# Altium footprint library IC.PcbLib: 26 footprints (part 1 of 2)
Each footprint in its own frame and in the unit in brackets; x right, y up, seen from the top. Pads: shape width x height; smd on the part's side, far side on the other; paste and mask are expansions set on the pad; w line width, h text height; cw(c..) or ccw(c..) is an arc to the next point about the centre after c.
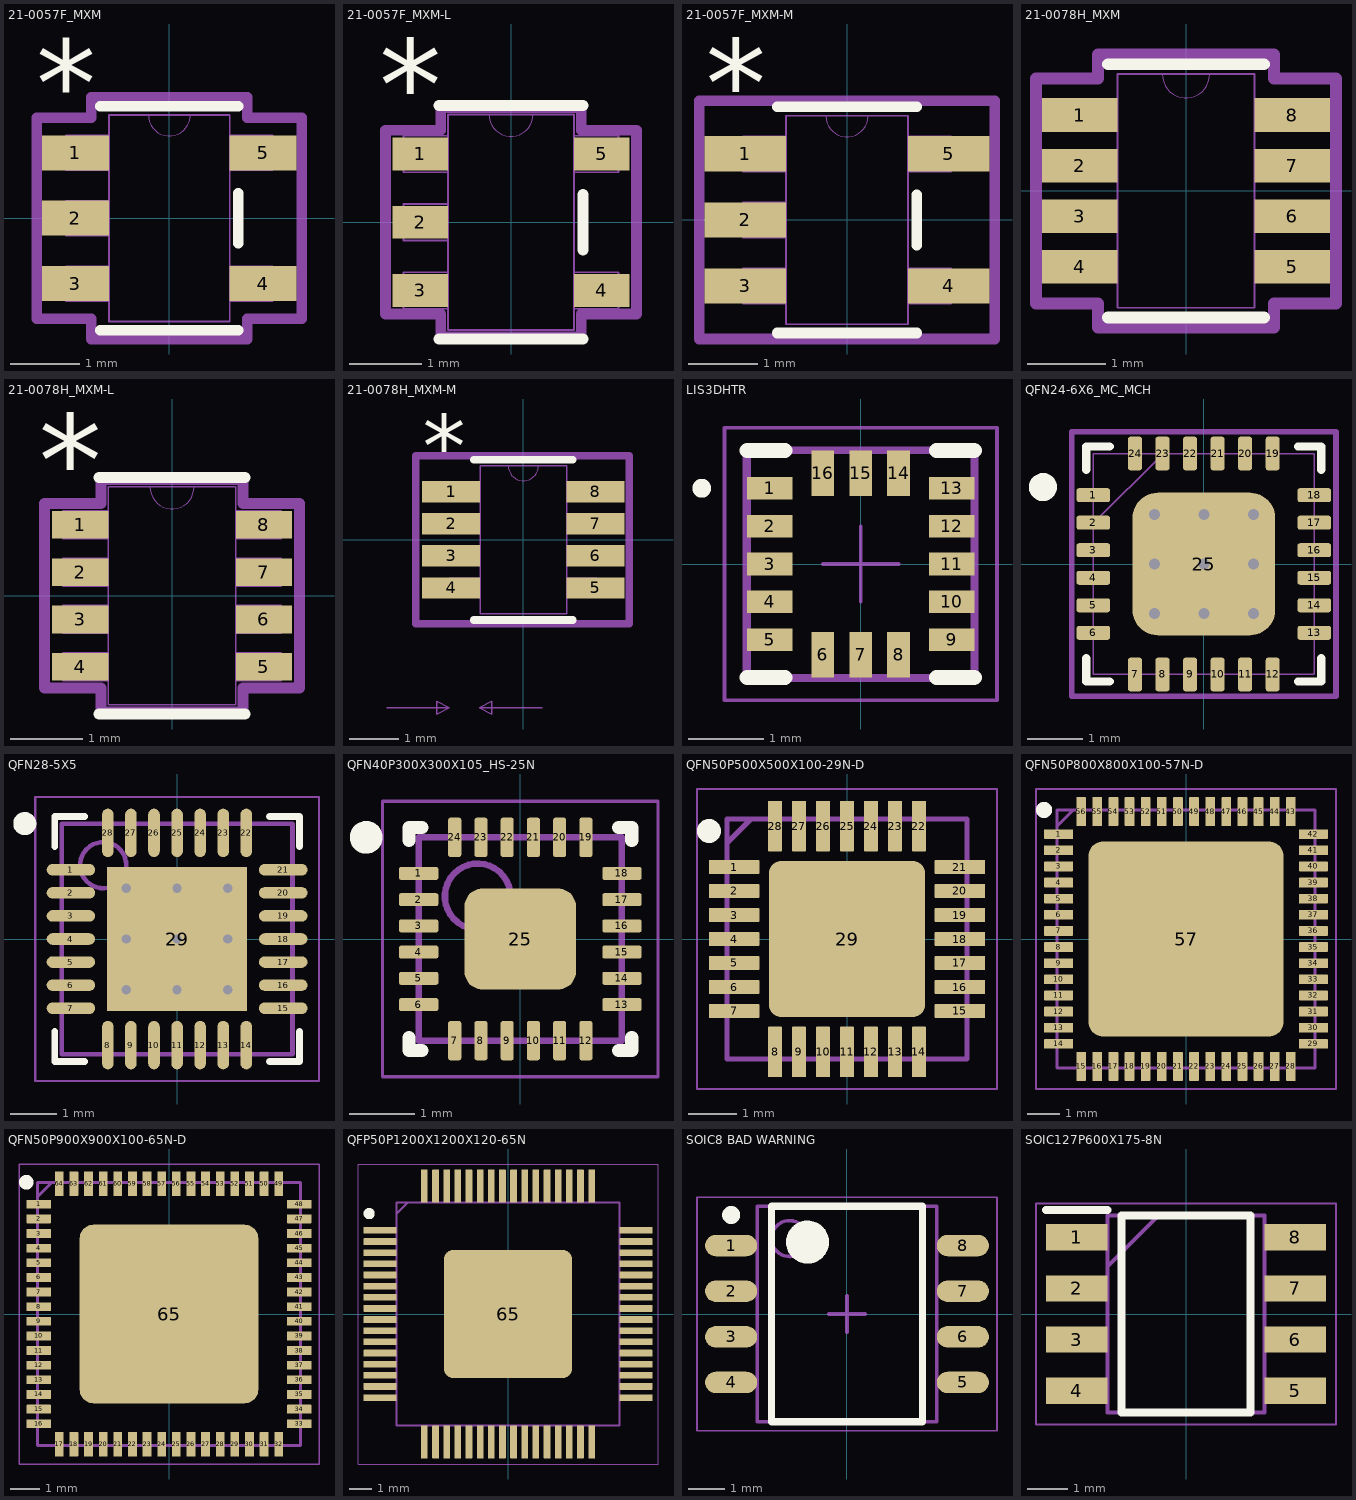
[diagram p0: the footprints below, top view; thin cyan lines are the x and y axes]

## 21-0057F_MXM [mil]
pads (5):
  rect 38.28x20 smd paste+0 mask+0: 1(-53.64,37.4) 2(-53.64,0) 3(-53.64,-37.4) 4(53.64,-37.4) 5(53.64,37.4)
Top Overlay:
  lines w6: -39.5,-64 39.5,-64 ; -39.5,64 39.5,64 ; 39.5,-14.3 39.5,14.3
  text "*" at -76.14,52.4 h50
Top Courtyard:
  lines w6: -75.79,-57.4 -44.5,-57.4 -44.5,-69 44.5,-69 44.5,-57.4 75.79,-57.4 75.79,57.4 44.5,57.4 44.5,69 -44.5,69 -44.5,57.4 -75.79,57.4 -75.79,-57.4
Mechanical 13:
  lines w0: -12,59 ccw(c0,59) 12,59
  lines w1: -59,-47.4 -59,-27.4 -34.5,-27.4 -34.5,-47.4 -59,-47.4 ; -59,-10 -59,10 -34.5,10 -34.5,-10 -59,-10 ; -59,27.4 -59,47.4 -34.5,47.4 -34.5,27.4 -59,27.4 ; -34.5,-59 34.5,-59 34.5,59 -34.5,59 -34.5,-59 ; 34.5,-47.4 34.5,-27.4 59,-27.4 59,-47.4 34.5,-47.4 ; 34.5,27.4 34.5,47.4 59,47.4 59,27.4 34.5,27.4
3D body: height 10, standoff 0, extent 0,0 10,10
3D body "21-0057F_MXM.step": height 57.09, standoff 0, extent -59.01,-59.01 59.02,59.02

## 21-0057F_MXM-L [mm]
pads (5):
  rect 0.772x0.458 smd paste+0 mask+0: 1(-1.262,0.95) 2(-1.262,0) 3(-1.262,-0.95) 4(1.262,-0.95) 5(1.262,0.95)
Top Overlay:
  lines w0.152: -1.003,-1.626 1.003,-1.626 ; -1.003,1.626 1.003,1.626 ; 1.003,-0.388 1.003,0.388
  text "*" at -1.834,1.281 h1.27
Top Courtyard:
  lines w0.152: -1.75,-1.281 -0.978,-1.281 -0.978,-1.6 0.978,-1.6 0.978,-1.281 1.75,-1.281 1.75,1.281 0.978,1.281 0.978,1.6 -0.978,1.6 -0.978,1.281 -1.75,1.281 -1.75,-1.281
Mechanical 13:
  lines w0: -0.305,1.499 ccw(c0,1.499) 0.305,1.499
  lines w0.025: -1.499,-1.204 -0.876,-1.204 -0.876,-0.696 -1.499,-0.696 -1.499,-1.204 ; -1.499,-0.254 -0.876,-0.254 -0.876,0.254 -1.499,0.254 -1.499,-0.254 ; -1.499,0.696 -0.876,0.696 -0.876,1.204 -1.499,1.204 -1.499,0.696 ; -0.876,-1.499 -0.876,1.499 0.876,1.499 0.876,-1.499 -0.876,-1.499 ; 0.876,-1.204 1.499,-1.204 1.499,-0.696 0.876,-0.696 0.876,-1.204 ; 0.876,0.696 1.499,0.696 1.499,1.204 0.876,1.204 0.876,0.696
3D body "21-0057F_MXM.step": height 1.45, standoff 0, extent -1.499,-1.499 1.499,1.499
3D body: height 0.25, standoff 0, extent 0,0 0.254,0.254

## 21-0057F_MXM-M [mil]
pads (5):
  rect 46.15x20 smd paste+0 mask+0: 1(-57.58,37.4) 2(-57.58,0) 3(-57.58,-37.4) 4(57.58,-37.4) 5(57.58,37.4)
Top Overlay:
  lines w6: -39.5,-64 39.5,-64 ; -39.5,64 39.5,64 ; 39.5,-14.3 39.5,14.3
  text "*" at -80.08,52.4 h50
Top Courtyard:
  lines w6: -83.66,-67.4 -83.66,67.4 -54.5,67.4 54.5,67.4 83.66,67.4 83.66,-67.4 54.5,-67.4 -54.5,-67.4 -83.66,-67.4
Mechanical 13:
  lines w0: -12,59 ccw(c0,59) 12,59
  lines w1: -59,-47.4 -34.5,-47.4 -34.5,-27.4 -59,-27.4 -59,-47.4 ; -59,-10 -34.5,-10 -34.5,10 -59,10 -59,-10 ; -59,27.4 -34.5,27.4 -34.5,47.4 -59,47.4 -59,27.4 ; -34.5,-59 -34.5,59 34.5,59 34.5,-59 -34.5,-59 ; 34.5,-47.4 59,-47.4 59,-27.4 34.5,-27.4 34.5,-47.4 ; 34.5,27.4 59,27.4 59,47.4 34.5,47.4 34.5,27.4
3D body: height 10, standoff 0, extent 0,0 10,10
3D body "21-0057F_MXM.step": height 57.09, standoff 0, extent -59.01,-59.01 59.02,59.02

## 21-0078H_MXM [mm]
pads (8):
  rect 0.974x0.431 smd paste+0 mask+0: 1(-1.363,0.975) 2(-1.363,0.325) 3(-1.363,-0.325) 4(-1.363,-0.975) 5(1.363,-0.975) 6(1.363,-0.325) 7(1.363,0.325) 8(1.363,0.975)
Top Overlay:
  lines w0.152: -1.003,-1.626 1.003,-1.626 ; -1.003,1.626 1.003,1.626
Top Courtyard:
  lines w0.152: -1.925,-1.445 -1.925,1.445 -1.13,1.445 -1.13,1.753 1.13,1.753 1.13,1.445 1.925,1.445 1.925,-1.445 1.13,-1.445 1.13,-1.753 -1.13,-1.753 -1.13,-1.445 -1.925,-1.445
Mechanical 13:
  lines w0: -0.305,1.499 ccw(c0,1.499) 0.305,1.499
  lines w0.025: -1.5,-1.165 -0.876,-1.165 -0.876,-0.784 -1.5,-0.784 -1.5,-1.165 ; -1.5,-0.516 -0.876,-0.516 -0.876,-0.135 -1.5,-0.135 -1.5,-0.516 ; -1.5,0.135 -0.876,0.135 -0.876,0.516 -1.5,0.516 -1.5,0.135 ; -1.5,0.784 -0.876,0.784 -0.876,1.165 -1.5,1.165 -1.5,0.784 ; -0.876,-1.499 -0.876,1.499 0.876,1.499 0.876,-1.499 -0.876,-1.499 ; 0.876,-1.165 1.5,-1.165 1.5,-0.784 0.876,-0.784 0.876,-1.165 ; 0.876,-0.516 1.5,-0.516 1.5,-0.135 0.876,-0.135 0.876,-0.516 ; 0.876,0.135 1.5,0.135 1.5,0.516 0.876,0.516 0.876,0.135 ; 0.876,0.784 1.5,0.784 1.5,1.165 0.876,1.165 0.876,0.784
3D body: height 0.25, standoff 0, extent 0,0 0.254,0.254
3D body "21-0078H_MXM.step": height 1.45, standoff 0, extent -1.5,-1.499 1.5,1.499

## 21-0078H_MXM-L [mm]
pads (8):
  rect 0.774x0.381 smd paste+0 mask+0: 1(-1.263,0.975) 2(-1.263,0.325) 3(-1.263,-0.325) 4(-1.263,-0.975) 5(1.263,-0.975) 6(1.263,-0.325) 7(1.263,0.325) 8(1.263,0.975)
Top Overlay:
  lines w0.152: -1.003,-1.626 1.003,-1.626 ; -1.003,1.626 1.003,1.626
  text "*" at -1.835,1.229 h1.27
Top Courtyard:
  lines w0.152: -1.752,-1.267 -0.978,-1.267 -0.978,-1.6 0.978,-1.6 0.978,-1.267 1.752,-1.267 1.752,1.267 0.978,1.267 0.978,1.6 -0.978,1.6 -0.978,1.267 -1.752,1.267 -1.752,-1.267
Mechanical 13:
  lines w0: -0.305,1.499 ccw(c0,1.499) 0.305,1.499
  lines w0.025: -1.5,-1.165 -0.876,-1.165 -0.876,-0.784 -1.5,-0.784 -1.5,-1.165 ; -1.5,-0.516 -0.876,-0.516 -0.876,-0.135 -1.5,-0.135 -1.5,-0.516 ; -1.5,0.135 -0.876,0.135 -0.876,0.516 -1.5,0.516 -1.5,0.135 ; -1.5,0.784 -0.876,0.784 -0.876,1.165 -1.5,1.165 -1.5,0.784 ; -0.876,-1.499 -0.876,1.499 0.876,1.499 0.876,-1.499 -0.876,-1.499 ; 0.876,-1.165 1.5,-1.165 1.5,-0.784 0.876,-0.784 0.876,-1.165 ; 0.876,-0.516 1.5,-0.516 1.5,-0.135 0.876,-0.135 0.876,-0.516 ; 0.876,0.135 1.5,0.135 1.5,0.516 0.876,0.516 0.876,0.135 ; 0.876,0.784 1.5,0.784 1.5,1.165 0.876,1.165 0.876,0.784
3D body: height 0.25, standoff 0, extent 0,0 0.254,0.254
3D body "21-0078H_MXM.step": height 1.45, standoff 0, extent -1.5,-1.499 1.5,1.499

## 21-0078H_MXM-M [mm]
pads (8):
  rect 1.174x0.431 smd paste+0 mask+0: 1(-1.463,0.975) 2(-1.463,0.325) 3(-1.463,-0.325) 4(-1.463,-0.975) 5(1.463,-0.975) 6(1.463,-0.325) 7(1.463,0.325) 8(1.463,0.975)
Top Overlay:
  lines w0.152: -1.003,-1.626 1.003,-1.626 ; -1.003,1.626 1.003,1.626
  text "*" at -2.035,1.279 h1.27
Top Courtyard:
  lines w0.152: -2.175,-1.699 -1.384,-1.699 1.384,-1.699 2.15,-1.699 2.15,1.699 1.384,1.699 -1.384,1.699 -2.175,1.699 -2.175,-1.699
Mechanical 7:
  lines w0.025: -2.77,-3.404 -1.5,-3.404 ; 0.38,-3.404 -0.89,-3.404 ; -1.5,-3.404 -1.754,-3.531 -1.754,-3.277 -1.5,-3.404 ; -0.89,-3.404 -0.636,-3.531 -0.636,-3.277 -0.89,-3.404
Mechanical 13:
  lines w0: -0.305,1.499 ccw(c0,1.499) 0.305,1.499
  lines w0.025: -1.5,-1.165 -0.876,-1.165 -0.876,-0.784 -1.5,-0.784 -1.5,-1.165 ; -1.5,-0.516 -0.876,-0.516 -0.876,-0.135 -1.5,-0.135 -1.5,-0.516 ; -1.5,0.135 -0.876,0.135 -0.876,0.516 -1.5,0.516 -1.5,0.135 ; -1.5,0.784 -0.876,0.784 -0.876,1.165 -1.5,1.165 -1.5,0.784 ; -0.876,-1.499 -0.876,1.499 0.876,1.499 0.876,-1.499 -0.876,-1.499 ; 0.876,-1.165 1.5,-1.165 1.5,-0.784 0.876,-0.784 0.876,-1.165 ; 0.876,-0.516 1.5,-0.516 1.5,-0.135 0.876,-0.135 0.876,-0.516 ; 0.876,0.135 1.5,0.135 1.5,0.516 0.876,0.516 0.876,0.135 ; 0.876,0.784 1.5,0.784 1.5,1.165 0.876,1.165 0.876,0.784
3D body: height 0.25, standoff 0, extent 0,0 0.254,0.254
3D body "21-0078H_MXM.step": height 1.45, standoff 0, extent -1.5,-1.499 1.5,1.499

## LIS3DHTR [mm]
pads (16):
  rect 0.6x0.3 smd: 1(-1.2,1) 2(-1.2,0.5) 3(-1.2,0) 4(-1.2,-0.5) 5(-1.2,-1) 9(1.2,-1) 10(1.2,-0.5) 11(1.2,0) 12(1.2,0.5) 13(1.2,1)
  rect 0.3x0.6 smd: 6(-0.5,-1.2) 7(0,-1.2) 8(0.5,-1.2) 14(0.5,1.2) 15(0,1.2) 16(-0.5,1.2)
Top Overlay:
  lines w0.125: -2.163,1.001 ccw(c-2.101,1.001) -2.038,1.001 ccw(c-2.101,1.001) -2.163,1.001
  lines w0.2: -1.5,-1.5 -1,-1.5 ; -1.5,1.5 -1,1.5 ; 1,-1.5 1.5,-1.5 ; 1,1.5 1.5,1.5
Mechanical 13:
  lines w0.1: -1.5,-1.5 1.5,-1.5 1.5,1.5 -1.5,1.5 -1.5,-1.5
Mechanical 15:
  lines w0.001: -1.55,-1.55 1.55,-1.55 1.55,1.55 -1.55,1.55 -1.55,-1.55
  lines w0.05: -0.5,0 0.5,0 ; 0,-0.5 0,0.5 ; -1.8,-1.8 1.8,-1.8 1.8,1.8 -1.8,1.8 -1.8,-1.8
3D body "LIS3DHTR.stp": height 1.1, standoff 0, extent -1.5,-1.5 1.5,1.5

## QFN24-6X6_MC_MCH [mil]
pads (25):
  rrect35% 24x10 smd paste+0 mask+0: 1(-79,49.21) 2(-79,29.53) 3(-79,9.84) 4(-79,-9.84) 5(-79,-29.53) 6(-79,-49.21) 13(79,-49.21) 14(79,-29.53) 15(79,-9.84) 16(79,9.84) 17(79,29.53) 18(79,49.21)
  rrect35% 10x24 smd paste+0 mask+0: 7(-49.21,-79) 8(-29.53,-79) 9(-9.84,-79) 10(9.84,-79) 11(29.53,-79) 12(49.21,-79) 19(49.21,79) 20(29.53,79) 21(9.84,79) 22(-9.84,79) 23(-29.53,79) 24(-49.21,79)
  rrect35% 102x102 smd paste-50.5 mask+0: 25(0,0)
via 35.43,-35.43 diameter 19.68 hole 7.87
via 0,-35.43 diameter 19.68 hole 7.87
via -35.43,-35.43 diameter 19.68 hole 7.87
via 35.43,0 diameter 19.68 hole 7.87
via 0,0 diameter 19.68 hole 7.87
via -35.43,0 diameter 19.68 hole 7.87
via 35.43,35.43 diameter 19.68 hole 7.87
via 0,35.43 diameter 19.68 hole 7.87
via -35.43,35.43 diameter 19.68 hole 7.87
Top Overlay:
  circle w10: c-115,55 r5
  lines w6: -84,-67.31 -84,-84 -67.31,-84 ; -84,67.31 -84,84 -67.31,84 ; 67.31,-84 84,-84 84,-67.31 ; 67.31,84 84,84 84,67.31
Top Paste:
  region: -3.94,47.06 -47.06,47.06 -47.06,3.94 -3.94,3.94
  region: -3.94,-3.94 -47.06,-3.94 -47.06,-47.06 -3.94,-47.06
  region: 47.06,47.06 3.94,47.06 3.94,3.94 47.06,3.94
  region: 47.06,-3.94 3.94,-3.94 3.94,-47.06 47.06,-47.06
Top Courtyard:
  lines w3.94: -94.49,-94.49 94.49,-94.49 94.49,94.49 -94.49,94.49 -94.49,-94.49
Mechanical 13:
  lines w1: -79,29 -29,79 ; -79,-79 79,-79 79,79 -79,79 -79,-79 ; -79,-55.21 -79,-43.21 -79,-55.21 ; -79,-35.53 -79,-23.53 -79,-35.53 ; -79,-15.84 -79,-3.84 -79,-15.84 ; -79,3.84 -79,15.84 -79,3.84 ; -79,23.53 -79,35.53 -79,23.53 ; -79,43.21 -79,55.21 -79,43.21 ; -55.21,-79 -43.21,-79 -55.21,-79 ; -55.21,79 -43.21,79 -55.21,79 ; -35.53,-79 -23.53,-79 -35.53,-79 ; -35.53,79 -23.53,79 -35.53,79 ; -15.84,-79 -3.84,-79 -15.84,-79 ; -15.84,79 -3.84,79 -15.84,79 ; 3.84,-79 15.84,-79 3.84,-79 ; 3.84,79 15.84,79 3.84,79 ; 23.53,-79 35.53,-79 23.53,-79 ; 23.53,79 35.53,79 23.53,79 ; 43.21,-79 55.21,-79 43.21,-79 ; 43.21,79 55.21,79 43.21,79 ; 79,-55.21 79,-43.21 79,-55.21 ; 79,-35.53 79,-23.53 79,-35.53 ; 79,-15.84 79,-3.84 79,-15.84 ; 79,3.84 79,15.84 79,3.84 ; 79,23.53 79,35.53 79,23.53 ; 79,43.21 79,55.21 79,43.21
Mechanical 15:
  lines w3.94: -94.49,-94.49 -94.49,94.49 94.49,94.49 94.49,-94.49 -94.49,-94.49
3D body "QFN24-6X6_MC_MCH.step": height 36.1, standoff 0, extent -79.01,-79.01 79.02,79.02
3D body: height 10, standoff 0, extent 0,0 10,10

## QFN28-5X5 [mm] "QFN, 28-Leads, Body 5,00x5,00mm, Pitch 0,50mm, Thermal Pad 3,03x3,13mm, IPC Medium Density"
height 0.9
pads (29):
  oval 1.05x0.25 smd: 1(-2.3,1.5) 2(-2.3,1) 3(-2.3,0.5) 4(-2.3,0) 5(-2.3,-0.5) 6(-2.3,-1) 7(-2.3,-1.5) 15(2.3,-1.5) 16(2.3,-1) 17(2.3,-0.5) 18(2.3,0) 19(2.3,0.5) 20(2.3,1) 21(2.3,1.5)
  oval 0.25x1.05 smd: 8(-1.5,-2.3) 9(-1,-2.3) 10(-0.5,-2.3) 11(0,-2.3) 12(0.5,-2.3) 13(1,-2.3) 14(1.5,-2.3) 22(1.5,2.3) 23(1,2.3) 24(0.5,2.3) 25(0,2.3) 26(-0.5,2.3) 27(-1,2.3) 28(-1.5,2.3)
  rect 3.03x3.13 smd: 29(0,0)
via 1.1,-1.1 diameter 0.5 hole 0.2
via 0,-1.1 diameter 0.5 hole 0.2
via -1.1,-1.1 diameter 0.5 hole 0.2
via 1.1,0 diameter 0.5 hole 0.2
via 0,0 diameter 0.5 hole 0.2
via -1.1,0 diameter 0.5 hole 0.2
via 1.1,1.1 diameter 0.5 hole 0.2
via 0,1.1 diameter 0.5 hole 0.2
via -1.1,1.1 diameter 0.5 hole 0.2
Top Overlay:
  circle w0.25: c-3.3,2.5 r0.125
  lines w0.15: -2.65,-2 -2.65,-2.65 -2,-2.65 ; -2.65,2 -2.65,2.65 -2,2.65 ; 2,-2.65 2.65,-2.65 2.65,-2 ; 2,2.65 2.65,2.65 2.65,2
Top Courtyard:
  lines w0.05: -3.075,-3.075 3.075,-3.075 3.075,3.075 -3.075,3.075 -3.075,-3.075
  lines w0.1: -0.5,0 0.5,0 ; 0,-0.5 0,0.5
Mechanical 13:
  circle w0.1: c-1.6,1.6 r0.5
  lines w0.1: -2.5,-2.5 2.5,-2.5 2.5,2.5 -2.5,2.5 -2.5,-2.5
3D body "QFN28-5X5.step": height 0.9, standoff 0, extent -2.57,-2.57 2.57,2.57

## QFN40P300X300X105_HS-25N [mm] "QFN, 24-Leads, Body 3,00x3,00mm, Pitch 0,40mm, Thermal Pad 1,70x1,54mm, IPC Medium Density"
height 1.05
pads (25):
  rrect35% 0.6x0.2 smd: 1(-1.55,1) 2(-1.55,0.6) 3(-1.55,0.2) 4(-1.55,-0.2) 5(-1.55,-0.6) 6(-1.55,-1) 13(1.55,-1) 14(1.55,-0.6) 15(1.55,-0.2) 16(1.55,0.2) 17(1.55,0.6) 18(1.55,1)
  rrect35% 0.2x0.6 smd: 7(-1,-1.55) 8(-0.6,-1.55) 9(-0.2,-1.55) 10(0.2,-1.55) 11(0.6,-1.55) 12(1,-1.55) 19(1,1.55) 20(0.6,1.55) 21(0.2,1.55) 22(-0.2,1.55) 23(-0.6,1.55) 24(-1,1.55)
  rrect35% 1.7x1.54 smd: 25(0,0)
Top Overlay:
  circle w0.25: c-2.35,1.55 r0.125
  lines w0.2: -1.7,-1.5 -1.7,-1.7 -1.5,-1.7 ; -1.7,1.5 -1.7,1.7 -1.5,1.7 ; 1.5,-1.7 1.7,-1.7 1.7,-1.5 ; 1.5,1.7 1.7,1.7 1.7,1.5
Top Courtyard:
  lines w0.05: -2.1,-2.1 2.1,-2.1 2.1,2.1 -2.1,2.1 -2.1,-2.1
Mechanical 13:
  circle w0.1: c-0.65,0.65 r0.5
  lines w0.1: -1.55,-1.55 1.55,-1.55 1.55,1.55 -1.55,1.55 -1.55,-1.55
Mechanical 15:
  lines w0.05: -2.1,-2.1 2.1,-2.1 2.1,2.1 -2.1,2.1 -2.1,-2.1
  lines w0.1: -0.5,0 0.5,0 ; 0,-0.5 0,0.5
3D body "QFN40P300X300X105_HS-25N.step": height 1.05, standoff 0, extent -1.6,-1.6 1.6,1.6

## QFN50P500X500X100-29N-D [mm]
pads (29):
  rrect15% 1.05x0.3 smd: 1(-2.35,1.5) 2(-2.35,1) 3(-2.35,0.5) 4(-2.35,0) 5(-2.35,-0.5) 6(-2.35,-1) 7(-2.35,-1.5) 15(2.35,-1.5) 16(2.35,-1) 17(2.35,-0.5) 18(2.35,0) 19(2.35,0.5) 20(2.35,1) 21(2.35,1.5)
  rrect15% 0.3x1.05 smd: 8(-1.5,-2.35) 9(-1,-2.35) 10(-0.5,-2.35) 11(0,-2.35) 12(0.5,-2.35) 13(1,-2.35) 14(1.5,-2.35) 22(1.5,2.35) 23(1,2.35) 24(0.5,2.35) 25(0,2.35) 26(-0.5,2.35) 27(-1,2.35) 28(-1.5,2.35)
  rrect15% 3.25x3.25 smd: 29(0,0)
Top Overlay:
  circle w0.25: c-2.875,2.25 r0.125
Mechanical 13:
  lines w0.1: -2.5,2 -2,2.5 ; -2.5,-2.5 2.5,-2.5 2.5,2.5 -2.5,2.5 -2.5,-2.5
Mechanical 15:
  lines w0.05: -3.125,-3.125 3.125,-3.125 3.125,3.125 -3.125,3.125 -3.125,-3.125
3D body "DRV8824RHDT.stp": height 1, standoff 0, extent -2.5,-2.5 2.5,2.5

## QFN50P800X800X100-57N-D [mm]
pads (57):
  rrect15% 0.9x0.3 smd: 1(-3.95,3.25) 2(-3.95,2.75) 3(-3.95,2.25) 4(-3.95,1.75) 5(-3.95,1.25) 6(-3.95,0.75) 7(-3.95,0.25) 8(-3.95,-0.25) 9(-3.95,-0.75) 10(-3.95,-1.25) 11(-3.95,-1.75) 12(-3.95,-2.25) 13(-3.95,-2.75) 14(-3.95,-3.25) 29(3.95,-3.25) 30(3.95,-2.75) 31(3.95,-2.25) 32(3.95,-1.75) 33(3.95,-1.25) 34(3.95,-0.75) 35(3.95,-0.25) 36(3.95,0.25) 37(3.95,0.75) 38(3.95,1.25) 39(3.95,1.75) 40(3.95,2.25) 41(3.95,2.75) 42(3.95,3.25)
  rrect15% 0.3x0.9 smd: 15(-3.25,-3.95) 16(-2.75,-3.95) 17(-2.25,-3.95) 18(-1.75,-3.95) 19(-1.25,-3.95) 20(-0.75,-3.95) 21(-0.25,-3.95) 22(0.25,-3.95) 23(0.75,-3.95) 24(1.25,-3.95) 25(1.75,-3.95) 26(2.25,-3.95) 27(2.75,-3.95) 28(3.25,-3.95) 43(3.25,3.95) 44(2.75,3.95) 45(2.25,3.95) 46(1.75,3.95) 47(1.25,3.95) 48(0.75,3.95) 49(0.25,3.95) 50(-0.25,3.95) 51(-0.75,3.95) 52(-1.25,3.95) 53(-1.75,3.95) 54(-2.25,3.95) 55(-2.75,3.95) 56(-3.25,3.95)
  rrect15% 6.05x6.05 smd: 57(0,0)
Top Overlay:
  circle w0.25: c-4.4,4 r0.125
Mechanical 13:
  lines w0.1: -4,3.5 -3.5,4 ; -4,-4 -4,4 4,4 4,-4 -4,-4
Mechanical 15:
  lines w0.05: -4.65,-4.65 -4.65,4.65 4.65,4.65 4.65,-4.65 -4.65,-4.65
3D body "LAN9303-ABZJ.stp": height 1, standoff 0, extent -4.05,-4.05 4.05,4.05

## QFN50P900X900X100-65N-D [mm]
pads (65):
  rrect15% 0.85x0.3 smd: 1(-4.45,3.75) 2(-4.45,3.25) 3(-4.45,2.75) 4(-4.45,2.25) 5(-4.45,1.75) 6(-4.45,1.25) 7(-4.45,0.75) 8(-4.45,0.25) 9(-4.45,-0.25) 10(-4.45,-0.75) 11(-4.45,-1.25) 12(-4.45,-1.75) 13(-4.45,-2.25) 14(-4.45,-2.75) 15(-4.45,-3.25) 16(-4.45,-3.75) 33(4.45,-3.75) 34(4.45,-3.25) 35(4.45,-2.75) 36(4.45,-2.25) 37(4.45,-1.75) 38(4.45,-1.25) 39(4.45,-0.75) 40(4.45,-0.25) 41(4.45,0.25) 42(4.45,0.75) 43(4.45,1.25) 44(4.45,1.75) 45(4.45,2.25) 46(4.45,2.75) 47(4.45,3.25) 48(4.45,3.75)
  rrect15% 0.3x0.85 smd: 17(-3.75,-4.45) 18(-3.25,-4.45) 19(-2.75,-4.45) 20(-2.25,-4.45) 21(-1.75,-4.45) 22(-1.25,-4.45) 23(-0.75,-4.45) 24(-0.25,-4.45) 25(0.25,-4.45) 26(0.75,-4.45) 27(1.25,-4.45) 28(1.75,-4.45) 29(2.25,-4.45) 30(2.75,-4.45) 31(3.25,-4.45) 32(3.75,-4.45) 49(3.75,4.45) 50(3.25,4.45) 51(2.75,4.45) 52(2.25,4.45) 53(1.75,4.45) 54(1.25,4.45) 55(0.75,4.45) 56(0.25,4.45) 57(-0.25,4.45) 58(-0.75,4.45) 59(-1.25,4.45) 60(-1.75,4.45) 61(-2.25,4.45) 62(-2.75,4.45) 63(-3.25,4.45) 64(-3.75,4.45)
  rrect15% 6.1x6.1 smd: 65(0,0)
Top Overlay:
  circle w0.25: c-4.875,4.5 r0.125
Mechanical 13:
  lines w0.1: -4.5,4 -4,4.5 ; -4.5,-4.5 4.5,-4.5 4.5,4.5 -4.5,4.5 -4.5,-4.5
Mechanical 15:
  lines w0.05: -5.125,-5.125 5.125,-5.125 5.125,5.125 -5.125,5.125 -5.125,-5.125
3D body "LAN9353_ML.stp": height 1, standoff 0, extent -4.55,-4.55 4.55,4.55

## QFP50P1200X1200X120-65N [mm]
pads (65):
  rrect15% 1.475x0.3 smd: 1(-5.738,3.75) 2(-5.738,3.25) 3(-5.738,2.75) 4(-5.738,2.25) 5(-5.738,1.75) 6(-5.738,1.25) 7(-5.738,0.75) 8(-5.738,0.25) 9(-5.738,-0.25) 10(-5.738,-0.75) 11(-5.738,-1.25) 12(-5.738,-1.75) 13(-5.738,-2.25) 14(-5.738,-2.75) 15(-5.738,-3.25) 16(-5.738,-3.75) 33(5.738,-3.75) 34(5.738,-3.25) 35(5.738,-2.75) 36(5.738,-2.25) 37(5.738,-1.75) 38(5.738,-1.25) 39(5.738,-0.75) 40(5.738,-0.25) 41(5.738,0.25) 42(5.738,0.75) 43(5.738,1.25) 44(5.738,1.75) 45(5.738,2.25) 46(5.738,2.75) 47(5.738,3.25) 48(5.738,3.75)
  rrect15% 0.3x1.475 smd: 17(-3.75,-5.738) 18(-3.25,-5.738) 19(-2.75,-5.738) 20(-2.25,-5.738) 21(-1.75,-5.738) 22(-1.25,-5.738) 23(-0.75,-5.738) 24(-0.25,-5.738) 25(0.25,-5.738) 26(0.75,-5.738) 27(1.25,-5.738) 28(1.75,-5.738) 29(2.25,-5.738) 30(2.75,-5.738) 31(3.25,-5.738) 32(3.75,-5.738) 49(3.75,5.738) 50(3.25,5.738) 51(2.75,5.738) 52(2.25,5.738) 53(1.75,5.738) 54(1.25,5.738) 55(0.75,5.738) 56(0.25,5.738) 57(-0.25,5.738) 58(-0.75,5.738) 59(-1.25,5.738) 60(-1.75,5.738) 61(-2.25,5.738) 62(-2.75,5.738) 63(-3.25,5.738) 64(-3.75,5.738)
  rrect15% 5.75x5.75 smd: 65(0,0)
Top Overlay:
  circle w0.25: c-6.225,4.5 r0.125
Mechanical 13:
  lines w0.1: -5,4.5 -4.5,5 ; -5,-5 5,-5 5,5 -5,5 -5,-5
Mechanical 15:
  lines w0.05: -6.725,-6.725 6.725,-6.725 6.725,6.725 -6.725,6.725 -6.725,-6.725
3D body "LAN9353I_PT.stp": height 1.2, standoff 0, extent -6,-6 6,6

## SOIC8 BAD WARNING [mm] "SOIC, 8-Leads, Body 6,00x5,00mm, Pitch 1,27mm, IPC Medium Density"
height 2.65
pads (8):
  oval 1.45x0.6 smd: 1(-3.225,1.905) 2(-3.225,0.635) 3(-3.225,-0.635) 4(-3.225,-1.905) 5(3.225,-1.905) 6(3.225,-0.635) 7(3.225,0.635) 8(3.225,1.905)
Top Overlay:
  circle w0.6: c-1.1,2 r0.3
  circle w0.25: c-3.225,2.755 r0.125
  lines w0.2: -2.1,-3 2.1,-3 2.1,3 -2.1,3 -2.1,-3
Mechanical 13:
  circle w0.1: c-1.6,2.1 r0.5
  lines w0.1: -2.5,-3 2.5,-3 2.5,3 -2.5,3 -2.5,-3
Mechanical 15:
  lines w0.05: -4.175,-3.25 4.175,-3.25 4.175,3.25 -4.175,3.25 -4.175,-3.25
  lines w0.1: -0.5,0 0.5,0 ; 0,-0.5 0,0.5
3D body: height 2.65, standoff 0.1, extent -2.5,-3 2.5,3

## SOIC127P600X175-8N [mm]
pads (8):
  rect 1.525x0.65 smd: 1(-2.712,1.905) 2(-2.712,0.635) 3(-2.712,-0.635) 4(-2.712,-1.905) 5(2.712,-1.905) 6(2.712,-0.635) 7(2.712,0.635) 8(2.712,1.905)
Top Overlay:
  lines w0.2: -3.475,2.58 -1.95,2.58 ; -1.6,-2.45 -1.6,2.45 1.6,2.45 1.6,-2.45 -1.6,-2.45
Mechanical 13:
  lines w0.1: -1.95,1.18 -0.68,2.45 ; -1.95,-2.45 -1.95,2.45 1.95,2.45 1.95,-2.45 -1.95,-2.45
Mechanical 15:
  lines w0.05: -3.725,-2.75 -3.725,2.75 3.725,2.75 3.725,-2.75 -3.725,-2.75
3D body "NE555DR.stp": height 1.75, standoff 0, extent -3,-2.45 3,2.45